# Altium integrated library CL10B105KA8NNNC.IntLib: 1 symbol
Pins are listed as number, name and electrical type; pins without a type are passive.

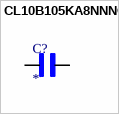
[diagram p0: symbol CL10B105KA8NNNC]

## CL10B105KA8NNNC
designator C?
MF: {'manufacturer': u'Samsung Electro-Mechanics'}; MP: CL10B105KA8NNNC; Package: None; Price: None; Value: *; Availability: Unavailable
footprint CAPC1608X90N
pins: 1, 2